# Altium footprint library switch.PCBLIB: 92 footprints (part 2 of 6)
Each footprint in its own frame and in the unit in brackets; x right, y up, seen from the top. Pads: shape width x height; smd on the part's side, far side on the other; paste and mask are expansions set on the pad; w line width, h text height; cw(c..) or ccw(c..) is an arc to the next point about the centre after c.
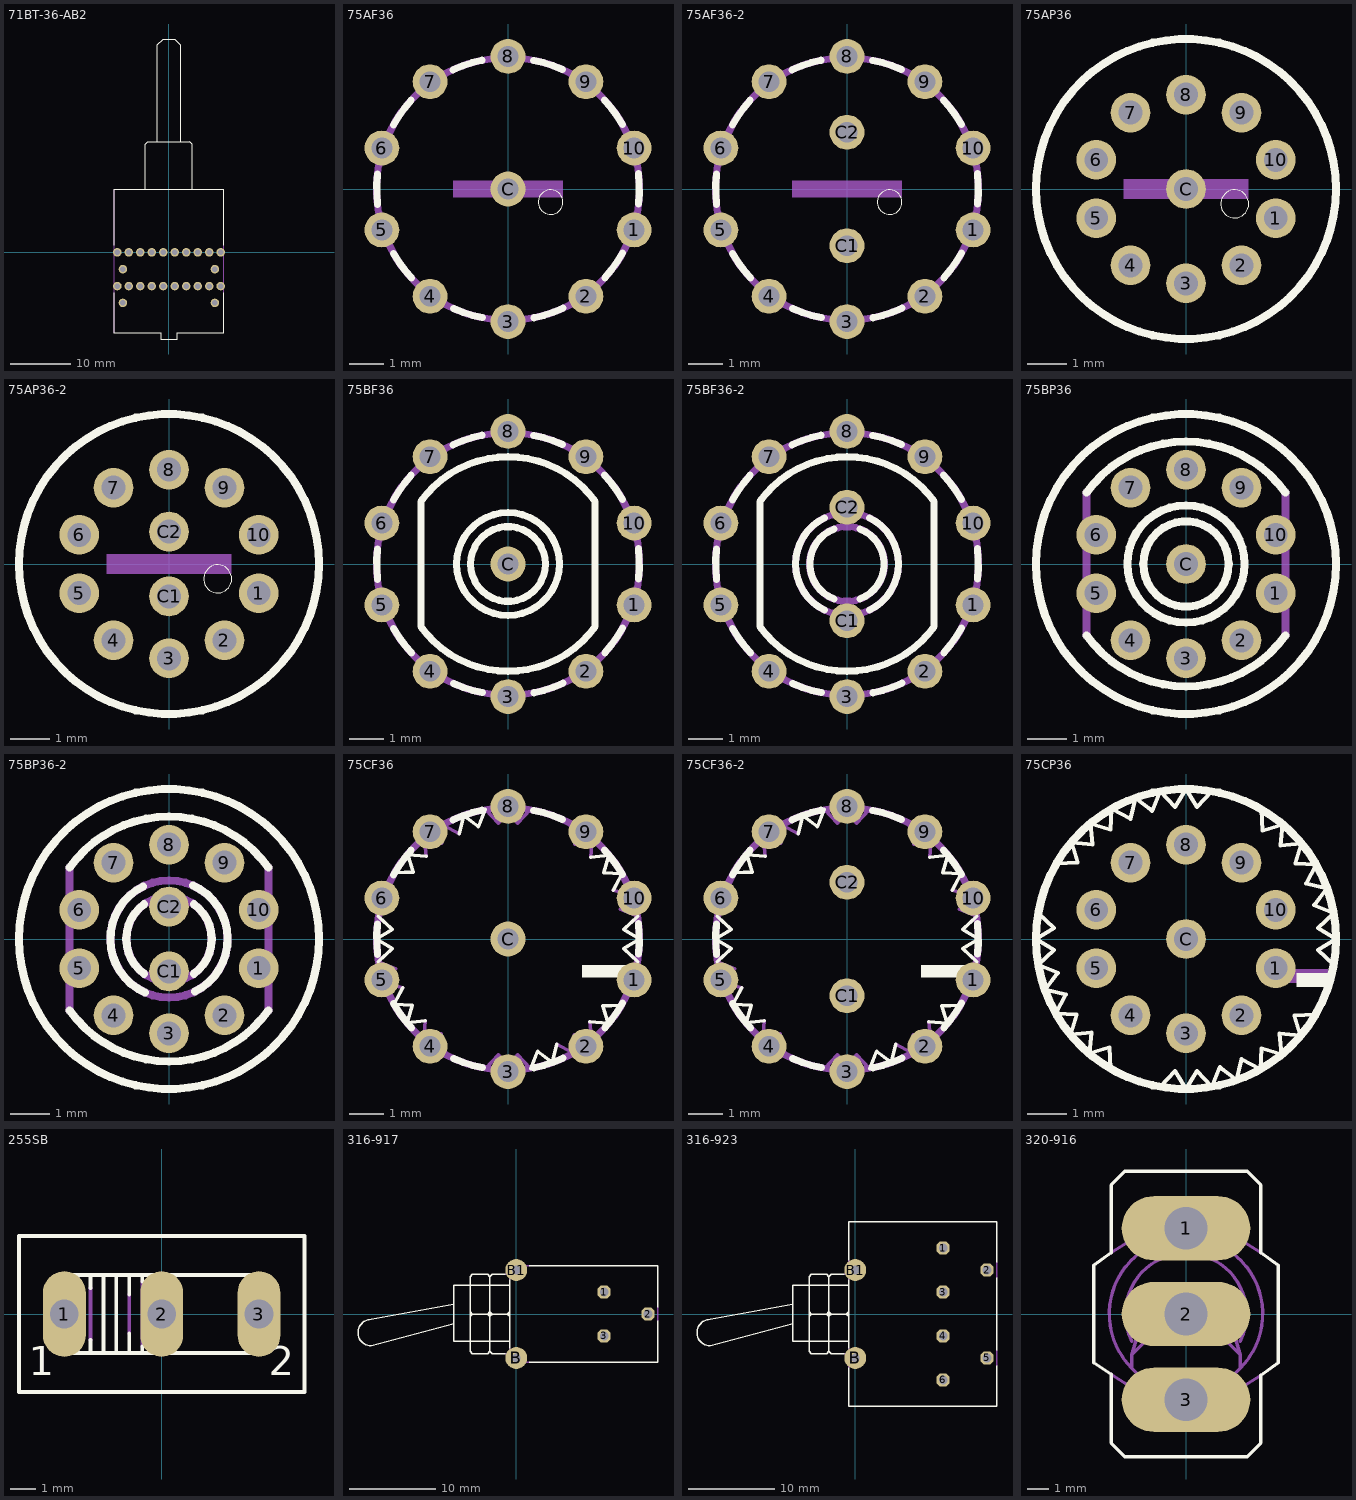
[diagram p1: the footprints below, top view; thin cyan lines are the x and y axes]

## 71BT-36-AB2 [mil]
pads (24):
  round 56 hole 35.43: A1(338,0) A2(263,0) A3(188,0) A4(113,0) A5(38,0) A6(-37,0) A7(-112,0) A8(-187,0) A9(-262,0) A10(-337,0) A-C1(300,-110) A-C2(-300,-110) B1(338,-220) B2(263,-220) B3(188,-220) B4(113,-220) B5(38,-220) B6(-37,-220) B7(-112,-220) B8(-187,-220) B9(-262,-220) B10(-337,-220) B-C1(300,-330) B-C2(-300,-330)
Top Overlay:
  lines w8: -359.25,-262.52 -359.25,-523.15 -54.13,-523.15 -54.13,-565.47 54.13,-565.47 54.13,-523.15 359.25,-523.15 359.25,-262.52 ; -359.25,46.85 -359.25,407.48 359.25,407.48 359.25,46.85 ; -153.54,409.45 -153.54,705.71 -136.81,722.44 -74.8,722.44 ; 153.54,408.46 153.54,704.72 135.83,722.44 74.8,722.44 ; -74.8,722.44 -74.8,1354.33 -37.4,1391.73 37.4,1391.73 74.8,1354.33 74.8,722.44 ; -74.8,722.44 74.8,722.44
Mechanical 16:
  lines w8: -359.25,-523.15 -359.25,407.48 ; 359.25,-523.15 359.25,407.48

## 75AF36 [mm]
pads (11):
  round 1 hole 0.6: 1(3.624,-1.177) 2(2.24,-3.082) 3(0,-3.81) 4(-2.24,-3.082) 5(-3.624,-1.177) 6(-3.624,1.177) 7(-2.24,3.082) 8(0,3.81) 9(2.24,3.082) 10(3.624,1.177) C(0,0)
Top Overlay:
  circle w0: c1.225,-0.375 r0.354
  lines w0.203: -3.751,0.43 ccw(c0.007,0.024) -3.744,-0.439 ; -3.287,-1.856 ccw(c-0.007,0.023) -2.771,-2.556 ; -3.287,1.845 cw(c0.02,0.015) -2.782,2.552 ; -1.575,3.425 cw(c0.025,0) -0.75,3.7 ; -1.568,-3.434 ccw(c-0.02,0.015) -0.739,-3.696 ; 0.739,3.696 cw(c0.02,-0.015) 1.568,3.434 ; 0.75,-3.7 ccw(c-0.025,0) 1.575,-3.425 ; 2.771,2.556 cw(c0.007,-0.023) 3.287,1.856 ; 2.782,-2.552 ccw(c-0.02,-0.015) 3.287,-1.845 ; 3.744,0.439 cw(c-0.007,-0.024) 3.751,-0.43
Mechanical 16:
  circle w0.203: c0,0 r3.775
  rectangle: -1.575,-0.25 1.575,0.25
  text "0" at 2.45,1.175 h1.26
  text "9" at 1.4,2.3 h1.26
  text "8" at -0.35,2.7 h1.26
  text "7" at -1.775,2.025 h1.26
  text "6" at -2.65,0.55 h1.26
  text "5" at -2.425,-1.2 h1.26
  text "4" at -1.325,-2.375 h1.26
  text "3" at 0.325,-2.7 h1.26
  text "2" at 1.75,-2.05 h1.26
  text "1" at 2.65,-0.5 h1.26

## 75AF36-2 [mm]
pads (12):
  round 1 hole 0.6: 1(3.624,-1.177) 2(2.24,-3.082) 3(0,-3.81) 4(-2.24,-3.082) 5(-3.624,-1.177) 6(-3.624,1.177) 7(-2.24,3.082) 8(0,3.81) 9(2.24,3.082) 10(3.624,1.177) C1(0,-1.63) C2(0,1.63)
Top Overlay:
  circle w0: c1.225,-0.375 r0.354
  lines w0.203: -3.751,0.43 ccw(c0.007,0.024) -3.744,-0.439 ; -3.287,-1.856 ccw(c-0.007,0.023) -2.771,-2.556 ; -3.287,1.845 cw(c0.02,0.015) -2.782,2.552 ; -1.575,3.425 cw(c0.025,0) -0.75,3.7 ; -1.568,-3.434 ccw(c-0.02,0.015) -0.739,-3.696 ; 0.739,3.696 cw(c0.02,-0.015) 1.568,3.434 ; 0.75,-3.7 ccw(c-0.025,0) 1.575,-3.425 ; 2.771,2.556 cw(c0.007,-0.023) 3.287,1.856 ; 2.782,-2.552 ccw(c-0.02,-0.015) 3.287,-1.845 ; 3.744,0.439 cw(c-0.007,-0.024) 3.751,-0.43
Mechanical 16:
  circle w0.203: c0,0 r3.775
  rectangle: -1.575,-0.25 1.575,0.25
  text "0" at 2.45,1.175 h1.26
  text "9" at 1.4,2.3 h1.26
  text "8" at -0.35,2.7 h1.26
  text "7" at -1.775,2.025 h1.26
  text "6" at -2.65,0.55 h1.26
  text "5" at -2.425,-1.2 h1.26
  text "4" at -1.325,-2.375 h1.26
  text "3" at 0.325,-2.7 h1.26
  text "2" at 1.75,-2.05 h1.26
  text "1" at 2.65,-0.5 h1.26

## 75AP36 [mm]
pads (11):
  round 1 hole 0.6: 1(2.259,-0.734) 2(1.396,-1.922) 3(0,-2.375) 4(-1.396,-1.922) 5(-2.259,-0.734) 6(-2.259,0.734) 7(-1.396,1.922) 8(0,2.375) 9(1.396,1.922) 10(2.259,0.734) C(0,0)
Top Overlay:
  circle w0.203: c0,0 r3.775
  circle w0: c1.225,-0.375 r0.354
Mechanical 16:
  rectangle: -1.575,-0.25 1.575,0.25
  text "0" at 2.45,1.175 h1.26
  text "9" at 1.4,2.3 h1.26
  text "8" at -0.35,2.7 h1.26
  text "7" at -1.775,2.025 h1.26
  text "6" at -2.65,0.55 h1.26
  text "5" at -2.425,-1.2 h1.26
  text "4" at -1.325,-2.375 h1.26
  text "3" at 0.325,-2.7 h1.26
  text "2" at 1.75,-2.05 h1.26
  text "1" at 2.65,-0.5 h1.26

## 75AP36-2 [mm]
pads (12):
  round 1 hole 0.6: 1(2.259,-0.734) 2(1.396,-1.922) 3(0,-2.375) 4(-1.396,-1.922) 5(-2.259,-0.734) 6(-2.259,0.734) 7(-1.396,1.922) 8(0,2.375) 9(1.396,1.922) 10(2.259,0.734) C1(0,-0.815) C2(0,0.815)
Top Overlay:
  circle w0.203: c0,0 r3.775
  circle w0: c1.225,-0.375 r0.354
Mechanical 16:
  rectangle: -1.575,-0.25 1.575,0.25
  text "0" at 2.45,1.175 h1.26
  text "9" at 1.4,2.3 h1.26
  text "8" at -0.35,2.7 h1.26
  text "7" at -1.775,2.025 h1.26
  text "6" at -2.65,0.55 h1.26
  text "5" at -2.425,-1.2 h1.26
  text "4" at -1.325,-2.375 h1.26
  text "3" at 0.325,-2.7 h1.26
  text "2" at 1.75,-2.05 h1.26
  text "1" at 2.65,-0.5 h1.26

## 75BF36 [mm]
pads (11):
  round 1 hole 0.6: 1(3.624,-1.177) 2(2.24,-3.082) 3(0,-3.81) 4(-2.24,-3.082) 5(-3.624,-1.177) 6(-3.624,1.177) 7(-2.24,3.082) 8(0,3.81) 9(2.24,3.082) 10(3.624,1.177) C(0,0)
Top Overlay:
  circle w0.203: c0,0 r1.475
  circle w0.203: c0,0 r1.075
  lines w0.203: -3.751,0.43 ccw(c0.007,0.024) -3.744,-0.439 ; -3.287,-1.856 ccw(c-0.007,0.023) -2.771,-2.556 ; -3.287,1.845 cw(c0.02,0.015) -2.782,2.552 ; -1.575,3.425 cw(c0.025,0) -0.75,3.7 ; -1.568,-3.434 ccw(c-0.02,0.015) -0.739,-3.696 ; 0.739,3.696 cw(c0.02,-0.015) 1.568,3.434 ; 0.75,-3.7 ccw(c-0.025,0) 1.575,-3.425 ; 2.771,2.556 cw(c0.007,-0.023) 3.287,1.856 ; 2.782,-2.552 ccw(c-0.02,-0.015) 3.287,-1.845 ; 3.744,0.439 cw(c-0.007,-0.024) 3.751,-0.43 ; -2.5,-1.8 -2.5,1.8 cw(c0,0) 2.5,1.8 2.5,-1.8 cw(c0,0) -2.5,-1.8
Mechanical 16:
  circle w0.203: c0,0 r3.775

## 75BF36-2 [mm]
pads (12):
  round 1 hole 0.6: 1(3.624,-1.177) 2(2.24,-3.082) 3(0,-3.81) 4(-2.24,-3.082) 5(-3.624,-1.177) 6(-3.624,1.177) 7(-2.24,3.082) 8(0,3.81) 9(2.24,3.082) 10(3.624,1.177) C1(0,-1.63) C2(0,1.63)
Top Overlay:
  lines w0.203: -3.751,0.43 ccw(c0.007,0.024) -3.744,-0.439 ; -3.287,-1.856 ccw(c-0.007,0.023) -2.771,-2.556 ; -3.287,1.845 cw(c0.02,0.015) -2.782,2.552 ; -1.575,3.425 cw(c0.025,0) -0.75,3.7 ; -1.568,-3.434 ccw(c-0.02,0.015) -0.739,-3.696 ; -0.65,-1.325 cw(c0.002,0) -0.65,1.325 ; -0.375,-1 cw(c0,0) -0.375,1 ; 0.375,-1 ccw(c0,0) 0.375,1 ; 0.65,-1.325 ccw(c-0.002,0) 0.65,1.325 ; 0.739,3.696 cw(c0.02,-0.015) 1.568,3.434 ; 0.75,-3.7 ccw(c-0.025,0) 1.575,-3.425 ; 2.771,2.556 cw(c0.007,-0.023) 3.287,1.856 ; 2.782,-2.552 ccw(c-0.02,-0.015) 3.287,-1.845 ; 3.744,0.439 cw(c-0.007,-0.024) 3.751,-0.43 ; -2.5,-1.8 -2.5,1.8 cw(c0,0) 2.5,1.8 2.5,-1.8 cw(c0,0) -2.5,-1.8
Mechanical 16:
  circle w0.203: c0,0 r3.775
  circle w0.203: c0,0 r1.475
  circle w0.203: c0,0 r1.075

## 75BP36 [mm]
pads (11):
  round 1 hole 0.6: 1(2.259,-0.734) 2(1.396,-1.922) 3(0,-2.375) 4(-1.396,-1.922) 5(-2.259,-0.734) 6(-2.259,0.734) 7(-1.396,1.922) 8(0,2.375) 9(1.396,1.922) 10(2.259,0.734) C(0,0)
Top Overlay:
  circle w0.203: c0,0 r3.775
  circle w0.203: c0,0 r1.475
  circle w0.203: c0,0 r1.075
  lines w0.203: -2.5,-1.8 ccw(c0,0) 2.5,-1.8 ; -2.5,1.8 cw(c0,0) 2.5,1.8
Mechanical 16:
  lines w0.203: -2.5,-1.8 -2.5,1.8 ; 2.5,-1.8 2.5,1.8

## 75BP36-2 [mm]
pads (12):
  round 1 hole 0.6: 1(2.259,-0.734) 2(1.396,-1.922) 3(0,-2.375) 4(-1.396,-1.922) 5(-2.259,-0.734) 6(-2.259,0.734) 7(-1.396,1.922) 8(0,2.375) 9(1.396,1.922) 10(2.259,0.734) C1(0,-0.815) C2(0,0.815)
Top Overlay:
  circle w0.203: c0,0 r3.775
  lines w0.203: -2.5,-1.8 ccw(c0,0) 2.5,-1.8 ; -2.5,1.8 cw(c0,0) 2.5,1.8 ; -0.65,1.325 ccw(c0,-0.001) -0.6,-1.35 ; -0.625,-0.875 cw(c0,0) -0.625,0.875 ; 0.6,1.35 cw(c0,0.001) 0.65,-1.325 ; 0.625,-0.875 ccw(c0,0) 0.625,0.875
Mechanical 16:
  circle w0.203: c0,0 r1.475
  circle w0.203: c0,0 r1.075
  lines w0.203: -2.5,-1.8 -2.5,1.8 ; 2.5,-1.8 2.5,1.8

## 75CF36 [mm]
pads (11):
  round 1 hole 0.6: 1(3.624,-1.177) 2(2.24,-3.082) 3(0,-3.81) 4(-2.24,-3.082) 5(-3.624,-1.177) 6(-3.624,1.177) 7(-2.24,3.082) 8(0,3.81) 9(2.24,3.082) 10(3.624,1.177) C(0,0)
Top Overlay:
  rectangle: 2.128,-1.102 3.578,-0.752
  lines w0.102: -3.725,-0.65 -3.325,-0.275 -3.775,0 -3.325,0.275 -3.725,0.65 ; -3.25,1.9 -2.725,1.925 -2.875,2.425 -2.35,2.375 ; -3.025,-1.4 -3.275,-1.875 -2.75,-1.9 -2.9,-2.4 -2.375,-2.35 ; -1.4,3.025 -1.275,3.55 -0.85,3.225 -0.65,3.725 ; 0.65,-3.725 0.85,-3.225 1.275,-3.55 1.4,-3.025 ; 2.35,-2.375 2.875,-2.425 2.725,-1.925 3.25,-1.9 ; 2.375,2.35 2.9,2.4 2.75,1.9 3.275,1.875 3.025,1.4 ; 3.725,-0.65 3.325,-0.275 3.775,0 3.325,0.275 3.725,0.65
  lines w0.203: -3.751,0.43 ccw(c0.007,0.024) -3.744,-0.439 ; -3.287,-1.856 ccw(c-0.007,0.023) -2.771,-2.556 ; -3.287,1.845 cw(c0.02,0.015) -2.782,2.552 ; -1.575,3.425 cw(c0.025,0) -0.75,3.7 ; -1.568,-3.434 ccw(c-0.02,0.015) -0.739,-3.696 ; 0.739,3.696 cw(c0.02,-0.015) 1.568,3.434 ; 0.75,-3.7 ccw(c-0.025,0) 1.575,-3.425 ; 2.771,2.556 cw(c0.007,-0.023) 3.287,1.856 ; 2.782,-2.552 ccw(c-0.02,-0.015) 3.287,-1.845 ; 3.744,0.439 cw(c-0.007,-0.024) 3.751,-0.43
Mechanical 16:
  circle w0.203: c0,0 r3.775
  lines w0.102: -3.725,-0.65 -3.225,-0.85 -3.55,-1.275 -3.025,-1.4 ; -2.375,-2.35 -2.425,-2.875 -1.925,-2.725 -1.9,-3.25 ; -2.35,2.375 -2.4,2.9 -1.9,2.75 -1.875,3.275 -1.4,3.025 ; -0.65,-3.725 -0.275,-3.325 0,-3.775 0.275,-3.325 0.65,-3.725 ; -0.65,3.725 -0.275,3.325 0,3.775 0.275,3.325 0.65,3.725 ; 1.4,-3.025 1.875,-3.275 1.9,-2.75 2.4,-2.9 2.35,-2.375 ; 1.9,3.25 1.925,2.725 2.425,2.875 2.375,2.35 ; 3.025,1.4 3.55,1.275 3.225,0.85 3.725,0.65

## 75CF36-2 [mm]
pads (12):
  round 1 hole 0.6: 1(3.624,-1.177) 2(2.24,-3.082) 3(0,-3.81) 4(-2.24,-3.082) 5(-3.624,-1.177) 6(-3.624,1.177) 7(-2.24,3.082) 8(0,3.81) 9(2.24,3.082) 10(3.624,1.177) C1(0,-1.63) C2(0,1.63)
Top Overlay:
  rectangle: 2.128,-1.102 3.578,-0.752
  lines w0.102: -3.725,-0.65 -3.325,-0.275 -3.775,0 -3.325,0.275 -3.725,0.65 ; -3.25,1.9 -2.725,1.925 -2.875,2.425 -2.35,2.375 ; -3.025,-1.4 -3.275,-1.875 -2.75,-1.9 -2.9,-2.4 -2.375,-2.35 ; -1.4,3.025 -1.275,3.55 -0.85,3.225 -0.65,3.725 ; 0.65,-3.725 0.85,-3.225 1.275,-3.55 1.4,-3.025 ; 2.35,-2.375 2.875,-2.425 2.725,-1.925 3.25,-1.9 ; 2.375,2.35 2.9,2.4 2.75,1.9 3.275,1.875 3.025,1.4 ; 3.725,-0.65 3.325,-0.275 3.775,0 3.325,0.275 3.725,0.65
  lines w0.203: -3.751,0.43 ccw(c0.007,0.024) -3.744,-0.439 ; -3.287,-1.856 ccw(c-0.007,0.023) -2.771,-2.556 ; -3.287,1.845 cw(c0.02,0.015) -2.782,2.552 ; -1.575,3.425 cw(c0.025,0) -0.75,3.7 ; -1.568,-3.434 ccw(c-0.02,0.015) -0.739,-3.696 ; 0.739,3.696 cw(c0.02,-0.015) 1.568,3.434 ; 0.75,-3.7 ccw(c-0.025,0) 1.575,-3.425 ; 2.771,2.556 cw(c0.007,-0.023) 3.287,1.856 ; 2.782,-2.552 ccw(c-0.02,-0.015) 3.287,-1.845 ; 3.744,0.439 cw(c-0.007,-0.024) 3.751,-0.43
Mechanical 16:
  circle w0.203: c0,0 r3.775
  lines w0.102: -3.725,-0.65 -3.225,-0.85 -3.55,-1.275 -3.025,-1.4 ; -2.375,-2.35 -2.425,-2.875 -1.925,-2.725 -1.9,-3.25 ; -2.35,2.375 -2.4,2.9 -1.9,2.75 -1.875,3.275 -1.4,3.025 ; -0.65,-3.725 -0.275,-3.325 0,-3.775 0.275,-3.325 0.65,-3.725 ; -0.65,3.725 -0.275,3.325 0,3.775 0.275,3.325 0.65,3.725 ; 1.4,-3.025 1.875,-3.275 1.9,-2.75 2.4,-2.9 2.35,-2.375 ; 1.9,3.25 1.925,2.725 2.425,2.875 2.375,2.35 ; 3.025,1.4 3.55,1.275 3.225,0.85 3.725,0.65

## 75CP36 [mm]
pads (11):
  round 1 hole 0.6: 1(2.259,-0.734) 2(1.396,-1.922) 3(0,-2.375) 4(-1.396,-1.922) 5(-2.259,-0.734) 6(-2.259,0.734) 7(-1.396,1.922) 8(0,2.375) 9(1.396,1.922) 10(2.259,0.734) C(0,0)
Top Overlay:
  circle w0.203: c0,0 r3.775
  rectangle: 2.787,-1.206 3.562,-0.856
  lines w0.102: -3.725,0.65 -3.325,0.275 -3.775,0 -3.325,-0.275 -3.725,-0.65 -3.225,-0.85 -3.55,-1.275 -3.025,-1.4 -3.275,-1.875 -2.75,-1.9 -2.9,-2.4 -2.375,-2.35 -2.425,-2.875 -1.925,-2.725 -1.9,-3.25 ; -3.25,1.9 -2.725,1.925 -2.875,2.425 -2.35,2.375 -2.4,2.9 -1.9,2.75 -1.875,3.275 -1.4,3.025 -1.275,3.55 -0.85,3.225 -0.65,3.725 -0.275,3.325 0,3.775 0.275,3.325 0.65,3.725 ; -0.65,-3.725 -0.275,-3.325 0,-3.775 0.275,-3.325 0.65,-3.725 0.85,-3.225 1.275,-3.55 1.4,-3.025 1.875,-3.275 1.9,-2.75 2.4,-2.9 2.35,-2.375 2.875,-2.425 2.725,-1.925 3.25,-1.9 ; 1.9,3.25 1.925,2.725 2.425,2.875 2.375,2.35 2.9,2.4 2.75,1.9 3.275,1.875 3.025,1.4 3.55,1.275 3.225,0.85 3.725,0.65 3.325,0.275 3.775,0 3.325,-0.275 3.725,-0.65
Mechanical 16:
  rectangle: 2.128,-1.102 3.578,-0.752

## 255SB [mil]
pads (3):
  oval 66x132 hole 44: 1(-150,0) 2(0,0) 3(150,0)
Top Overlay:
  lines w6: -150,-55 -150,-60 -130,-60 ; -150,55 -150,60 -130,60 ; -130,-55 -130,-60 ; -130,55 -130,60 ; -110,-40 -110,-60 ; -110,40 -110,60 ; -50,-30 -50,-60 ; -50,30 -50,60 ; -30,-50 -30,-60 ; -30,50 -30,60 ; 150,-55 150,-60 -30,-60 ; 150,55 150,60 -30,60 ; -130,-60 -110,-60 ; -130,60 -110,60 ; -110,-60 -90,-60 ; -110,60 -90,60 ; -90,-60 -70,-60 ; -90,-60 -90,60 ; -90,60 -70,60 ; -70,-60 -70,60 ; -70,-60 -50,-60 ; -70,60 -50,60 ; -50,-60 -30,-60 ; -50,60 -30,60 ; -220,-120 220,-120 220,120 -220,120 -220,-120
  text "1" at -205,-110 h77.5
  text "2" at 165,-110 h77.5
Mechanical 16:
  lines w6: -150,-55 -150,55 ; -130,-55 -130,55 ; -110,-40 -110,40 ; -50,-30 -50,30 ; -30,-50 -30,50 ; 150,-55 150,55

## 316-917 [mil]
pads (5):
  oct 60x60 hole 40: 1(400,100) 2(600,0) 3(400,-100)
  round 100 hole 40: B(0,-200) B1(0,200)
Top Overlay:
  lines w6: -50,-180 -110,-180 -120,-170 ; -50,180 -110,180 -120,170 ; -30,-155 -30,-125 ; -30,155 -30,130 ; 60,-220 645,-220 645,-30 ; 60,220 645,220 645,30 ; -285,-45 -285,-125 -30,-125 ; -285,-45 -660,-145 cw(c-660,-85) -660,-25 -285,45 ; -285,-45 -285,45 ; -285,45 -285,130 -30,130 ; -210,-10 -210,-170 -200,-180 -130,-180 -120,-170 ; -210,-10 -200,0 ; -210,-10 -210,0 ; -210,0 -200,0 ; -210,0 -210,10 ; -210,10 -200,0 ; -210,10 -210,170 -200,180 -130,180 -120,170 ; -200,0 -130,0 ; -130,0 -120,-10 ; -130,0 -120,0 ; -130,0 -120,10 ; -120,-170 -120,-10 ; -120,-10 -110,0 ; -120,-10 -120,0 ; -120,0 -120,10 ; -120,0 -110,0 ; -120,10 -110,0 ; -120,10 -120,170 ; -110,0 -40,0 ; -40,0 -30,10 ; -40,0 -30,0 ; -40,0 -30,-10 ; -30,-125 -30,-10 ; -30,-10 -30,0 ; -30,0 -30,10 ; -30,10 -30,130
Mechanical 16:
  lines w6: -50,-180 -40,-180 ; -50,180 -40,180 ; -30,-155 -30,-170 ; -30,155 -30,170 ; 60,-220 -30,-220 -30,-180 ; 60,220 -30,220 -30,180 ; 645,-30 645,30 ; -40,-180 -30,-180 ; -40,-180 -30,-170 ; -40,180 -30,170 ; -40,180 -30,180 ; -30,-180 -30,-170 ; -30,170 -30,180

## 316-923 [mil]
pads (8):
  oct 60x60 hole 40: 1(400,300) 2(600,200) 3(400,100) 4(400,-100) 5(600,-200) 6(400,-300)
  round 100 hole 40: B(0,-200) B1(0,200)
Top Overlay:
  lines w6: -50,-180 -110,-180 -120,-170 ; -50,180 -110,180 -120,170 ; -30,-245 -30,-420 645,-420 645,-235 ; -30,-155 -30,-125 ; -30,155 -30,130 ; -30,245 -30,420 645,420 645,235 ; 645,-165 645,165 ; -285,-45 -285,-125 -30,-125 ; -285,-45 -660,-145 cw(c-660,-85) -660,-25 -285,45 ; -285,-45 -285,45 ; -285,45 -285,130 -30,130 ; -210,-10 -210,-170 -200,-180 -130,-180 -120,-170 ; -210,-10 -200,0 ; -210,-10 -210,0 ; -210,0 -200,0 ; -210,0 -210,10 ; -210,10 -200,0 ; -210,10 -210,170 -200,180 -130,180 -120,170 ; -200,0 -130,0 ; -130,0 -120,-10 ; -130,0 -120,0 ; -130,0 -120,10 ; -120,-170 -120,-10 ; -120,-10 -110,0 ; -120,-10 -120,0 ; -120,0 -120,10 ; -120,0 -110,0 ; -120,10 -110,0 ; -120,10 -120,170 ; -110,0 -40,0 ; -40,0 -30,10 ; -40,0 -30,0 ; -40,0 -30,-10 ; -30,-125 -30,-10 ; -30,-10 -30,0 ; -30,0 -30,10 ; -30,10 -30,130
Mechanical 16:
  lines w6: -50,-180 -40,-180 ; -50,180 -40,180 ; -30,-245 -30,-180 ; -30,-155 -30,-170 ; -30,155 -30,170 ; -30,245 -30,180 ; 645,-235 645,-165 ; 645,165 645,235 ; -40,-180 -30,-180 ; -40,-180 -30,-170 ; -40,180 -30,170 ; -40,180 -30,180 ; -30,-180 -30,-170 ; -30,170 -30,180

## 320-916 [mil]
pads (3):
  oval 237x118.5 hole 79: 1(0,158) 2(0,0) 3(0,-158)
Top Overlay:
  lines w6: -170,-90 -170,90 -138,113 -138,238 -113,263 113,263 138,238 138,113 170,90 170,-90 138,-113 138,-238 113,-263 -113,-263 -138,-238 -138,-111 -170,-90
Mechanical 16:
  lines w6: -138,-111 0,-200 138,-113 ; -138,113 0,200 138,113 ; -100,-50 cw(c0,0) 100,-50 ; -100,-100 -75,-125 75,-125 100,-100 ; -100,-100 -100,-75 ; -100,-100 cw(c0,0) 100,-100 ; -100,-75 -75,-50 75,-50 100,-75 ; -100,-75 -63,50 63,50 100,-75 ; 100,-100 100,-75